# Altium footprint library pedals-transformer.PCBLIB: 8 footprints
Each footprint in its own frame and in the unit in brackets; x right, y up, seen from the top. Pads: shape width x height; smd on the part's side, far side on the other; paste and mask are expansions set on the pad; w line width, h text height; cw(c..) or ccw(c..) is an arc to the next point about the centre after c.
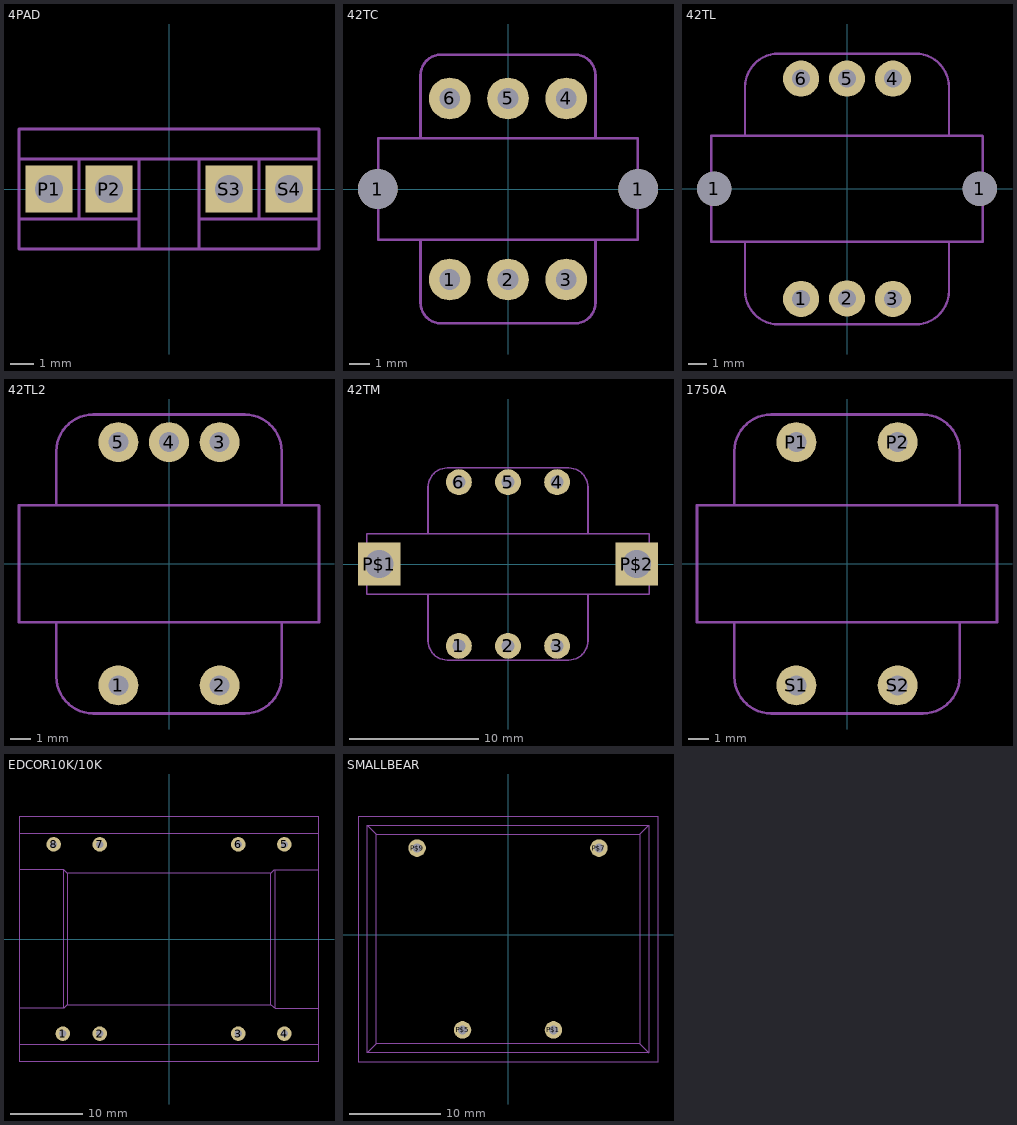
[diagram p0: the footprints below, top view; thin cyan lines are the x and y axes]

## 4PAD [mm]
pads (4):
  rect 2x2 hole 1.2: P1(-5.08,0) P2(-2.54,0) S3(2.54,0) S4(5.08,0)
Mechanical 2:
  lines w0.127: -6.35,-1.27 -3.81,-1.27 ; -6.35,-1.27 -6.35,1.27 ; -6.35,-1.27 -6.35,-2.54 -1.27,-2.54 ; -6.35,1.27 -3.81,1.27 ; -6.35,1.27 -6.35,2.54 6.35,2.54 6.35,1.27 ; -3.81,-1.27 -1.27,-1.27 ; -3.81,-1.27 -3.81,1.27 ; -3.81,1.27 -1.27,1.27 ; -1.27,-2.54 -1.27,-1.27 ; -1.27,-2.54 1.27,-2.54 ; -1.27,-1.27 -1.27,1.27 ; -1.27,1.27 1.27,1.27 ; 1.27,-2.54 6.35,-2.54 6.35,-1.27 ; 1.27,-2.54 1.27,-1.27 ; 1.27,-1.27 3.81,-1.27 ; 1.27,-1.27 1.27,1.27 ; 1.27,1.27 3.81,1.27 ; 3.81,-1.27 6.35,-1.27 ; 3.81,-1.27 3.81,1.27 ; 3.81,1.27 6.35,1.27 ; 6.35,-1.27 6.35,1.27

## 42TC [mm]
pads (8):
  round 1.9 hole 1.9: 1(-6.248,0) 1(6.248,0)
  round 2 hole 1: 1(-2.794,-4.343) 2(0,-4.343) 3(2.794,-4.343) 4(2.794,4.343) 5(0,4.343) 6(-2.794,4.343)
Mechanical 2:
  lines w0.127: -6.218,-2.431 -6.218,2.434 6.193,2.434 ; -6.193,-2.434 6.218,-2.434 6.218,2.431 ; -4.2,-2.45 -4.2,-5.45 ccw(c-3.2,-5.45) -3.2,-6.45 3.2,-6.45 ccw(c3.2,-5.45) 4.2,-5.45 4.2,-2.45 ; -4.2,2.45 -4.2,5.45 cw(c-3.2,5.45) -3.2,6.45 3.2,6.45 cw(c3.2,5.45) 4.2,5.45 4.2,2.45

## 42TL [mm]
pads (8):
  round 1.9 hole 1.9: 1(-7.353,0) 1(7.353,0)
  round 2 hole 1: 1(-2.54,-6.096) 2(0,-6.068) 3(2.54,-6.096) 4(2.54,6.096) 5(0,6.096) 6(-2.54,6.096)
Mechanical 2:
  lines w0.127: -7.518,-2.931 -7.518,2.934 7.493,2.934 ; -7.493,-2.934 7.518,-2.934 7.518,2.916 ; -5.644,-3.01 -5.644,-5.657 ccw(c-3.795,-5.657) -3.795,-7.506 3.795,-7.506 ccw(c3.795,-5.657) 5.644,-5.657 5.644,-3.01 ; -5.644,2.958 -5.644,5.631 cw(c-3.795,5.631) -3.795,7.48 3.795,7.48 cw(c3.795,5.631) 5.644,5.631 5.644,2.958

## 42TL2 [mm]
pads (5):
  round 2 hole 1: 1(-2.54,-6.096) 2(2.54,-6.096) 3(2.54,6.096) 4(0,6.096) 5(-2.54,6.096)
Mechanical 2:
  lines w0.127: -7.518,-2.931 -7.518,2.934 7.493,2.934 ; -7.493,-2.934 7.518,-2.934 7.518,2.916 ; -5.644,-3.01 -5.644,-5.657 ccw(c-3.795,-5.657) -3.795,-7.506 3.795,-7.506 ccw(c3.795,-5.657) 5.644,-5.657 5.644,-3.01 ; -5.644,2.958 -5.644,5.631 cw(c-3.795,5.631) -3.795,7.48 3.795,7.48 cw(c3.795,5.631) 5.644,5.631 5.644,2.958

## 42TM [mm]
pads (8):
  round 2 hole 1: 1(-3.81,-6.35) 2(0,-6.35) 3(3.81,-6.35) 4(3.81,6.35) 5(0,6.35) 6(-3.81,6.35)
  rect 3.3x3.3 hole 2.2: P$1(-9.982,0) P$2(9.982,0)
Mechanical 2:
  lines w0.127: -6.2,-2.35 -10.95,-2.35 -10.95,2.35 -6.2,2.35 ; -6.2,-2.35 6.2,-2.35 ; -6.2,-2.35 -6.2,-5.95 ccw(c-4.7,-5.95) -4.7,-7.45 4.7,-7.45 ccw(c4.7,-5.95) 6.2,-5.95 6.2,-2.35 ; -6.2,2.35 -6.2,5.95 cw(c-4.7,5.95) -4.7,7.45 4.7,7.45 cw(c4.7,5.95) 6.2,5.95 6.2,2.35 ; -6.2,2.35 6.2,2.35 ; 6.2,-2.35 10.95,-2.35 10.95,2.35 6.2,2.35

## 1750A [mm]
pads (4):
  round 2 hole 1: P1(-2.54,6.096) P2(2.54,6.096) S1(-2.54,-6.096) S2(2.54,-6.096)
Mechanical 2:
  lines w0.127: -7.518,-2.931 -7.518,2.934 7.493,2.934 ; -7.493,-2.934 7.518,-2.934 7.518,2.916 ; -5.644,-3.01 -5.644,-5.657 ccw(c-3.795,-5.657) -3.795,-7.506 3.795,-7.506 ccw(c3.795,-5.657) 5.644,-5.657 5.644,-3.01 ; -5.644,2.958 -5.644,5.631 cw(c-3.795,5.631) -3.795,7.48 3.795,7.48 cw(c3.795,5.631) 5.644,5.631 5.644,2.958

## EDCOR10K/10K [mm]
pads (8):
  round 2 hole 1: 1(-14.605,-13.018) 2(-9.525,-13.018) 3(9.525,-13.018) 4(15.875,-13.018) 5(15.875,13.018) 6(9.525,13.018) 7(-9.525,13.018) 8(-15.875,13.018)
Mechanical 2:
  lines w0.127: -20.637,-14.541 -20.637,-9.525 ; -20.637,-14.541 -20.637,-16.891 20.637,-16.891 20.637,-14.541 ; -20.637,-14.541 20.637,-14.541 ; -20.637,-9.525 -20.637,9.525 ; -20.637,-9.525 -14.541,-9.525 ; -20.637,9.525 -20.637,14.541 ; -20.637,9.525 -14.541,9.525 ; -20.637,14.541 -20.637,16.891 20.637,16.891 20.637,14.541 ; -20.637,14.541 20.637,14.541 ; -14.541,-9.525 -14.478,-9.525 -13.97,-9.017 ; -14.541,-9.525 -14.541,9.525 ; -14.541,9.525 -14.478,9.525 -13.97,9.017 ; -13.97,-9.017 -13.97,9.017 ; -13.97,-9.017 13.97,-9.017 ; -13.97,9.017 13.97,9.017 ; 13.97,-9.017 13.97,9.017 ; 13.97,-9.017 14.605,-9.525 ; 13.97,9.017 14.478,9.525 14.605,9.525 ; 14.605,-9.525 20.637,-9.525 ; 14.605,-9.525 14.605,9.525 ; 14.605,9.525 20.637,9.525 ; 20.637,-14.541 20.637,-9.525 ; 20.637,-9.525 20.637,9.525 ; 20.637,9.525 20.637,14.541

## SMALLBEAR [mil]
pads (4):
  round 76 hole 39.37: P$1(196.46,-412.2) P$5(-197.24,-412.2) P$7(393.31,375.2) P$9(-394.09,375.2)
Mechanical 2:
  lines w5: -610.63,-510.63 609.84,-510.63 ; -610.63,-510.63 -610.63,473.62 ; -610.63,-510.63 -571.26,-471.26 ; -610.63,473.62 609.84,473.62 ; -610.63,473.62 -571.26,434.25 ; -571.26,-471.26 570.47,-471.26 ; -571.26,-471.26 -571.26,434.25 ; -571.26,434.25 570.47,434.25 ; 570.47,-471.26 570.47,434.25 ; 570.47,-471.26 609.84,-510.63 ; 570.47,434.25 609.84,473.62 ; 609.84,-510.63 609.84,473.62 ; -650,-550 -650,512.99 649.21,512.99 649.21,-550 -650,-550